# EAGLE library part SWITCH_DPDT (library kmod-mechanical)
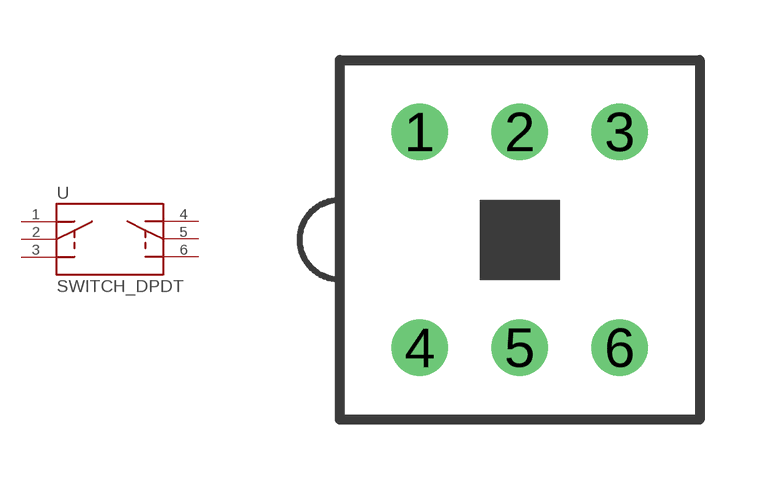
[diagram p1: symbol with the pads of PUSHBUTTON-2.5-5.4; footprint PUSHBUTTON-2.5-5.4]

Designator prefix -

## SWITCH_DPDTPUSHBUTTON  [PUSHBUTTON-2.5-5.4]
1  NC0
2  COM0
3  NO0
4  NC1
5  COM1
6  NO1

## Footprint PUSHBUTTON-2.5-5.4 (pad centres in mm)
What seems like the most common push-button footprint I can find. Ex: http://switches-connectors-custom.cwind.com/Asset/GPBS850NR1.pdf TL2201 https://www.e-switch.com/system/asset/product_line/data_sheet/65/TL2201.pdf MHPS2285 http://www.apem.com/files/apem/brochures/MHPS_TACTS.pdf Contains 2 rows of three pins; pin pitch is 2.5mm, and row spacing is 5.4mm. Switch body is 8.5 x 8.5 x 8.5mm Middle pins (2 and 5) are common; unpressed connects 1 and 4, pushed connects 3 and 6.
drill 0.9: 1 -2.5,2.7; 2 0,2.7; 3 2.5,2.7; 4 -2.5,-2.7; 5 0,-2.7; 6 2.5,-2.7